# Altium footprint library PcbLib2.PcbLib: 58 footprints (part 2 of 4)
Each footprint in its own frame and in the unit in brackets; x right, y up, seen from the top. Pads: shape width x height; smd on the part's side, far side on the other; paste and mask are expansions set on the pad; w line width, h text height; cw(c..) or ccw(c..) is an arc to the next point about the centre after c.
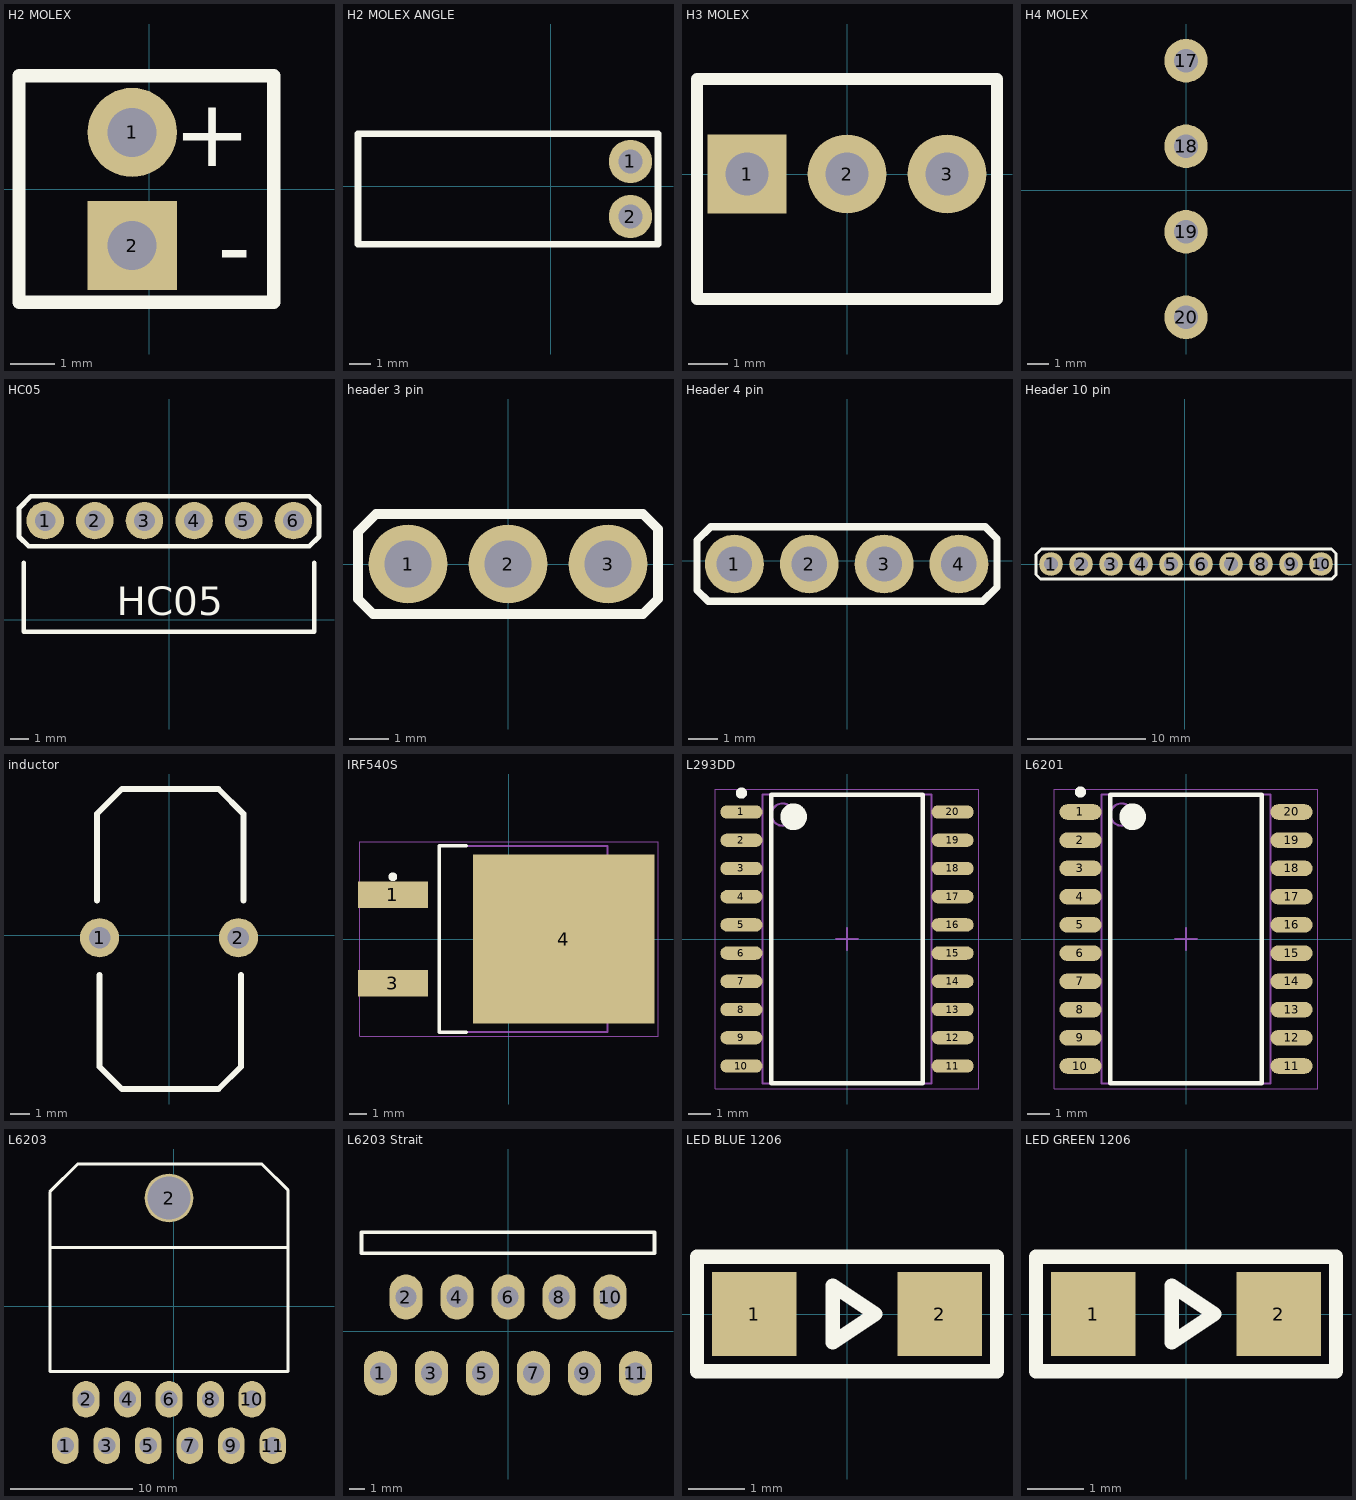
[diagram p1: the footprints below, top view; thin cyan lines are the x and y axes]

## H2 MOLEX [mm]
pads (2):
  round 2 hole 1.1: 1(-0.381,1.27)
  rect 2x2 hole 1.1: 2(-0.381,-1.27)
Top Overlay:
  lines w0.3: -2.921,-2.54 2.794,-2.54 2.794,2.54 -2.921,2.54 -2.921,-2.54
  text "-" at 2.286,-2.032 h1.52
  text "+" at 2.286,0.508 h1.52
3D body "Molex-2.54-2pin.STEP": height 11.24, standoff -3.09, extent -2.9,-2.54 2.9,2.54

## H2 MOLEX ANGLE [mm]
pads (2):
  round 2 hole 1.1: 1(3.683,1.143) 2(3.683,-1.397)
Top Overlay:
  lines w0.3: -8.89,-2.667 4.953,-2.667 4.953,2.413 -8.89,2.413 -8.89,-2.667
3D body "Molex-2.54-2pin-angle.STEP": height 5.87, standoff -4.04, extent -8.999,-2.672 3.974,2.408

## H3 MOLEX [mm]
pads (3):
  rect 2x2 hole 1.1: 1(-2.54,0)
  round 2 hole 1.1: 2(0,0) 3(2.54,0)
Top Overlay:
  lines w0.3: -3.81,-3.175 -3.81,2.413 3.81,2.413 3.81,-3.175 -3.81,-3.175
3D body "molex-2.54-3pin.STEP": height 11.25, standoff -3.08, extent -3.807,-3.311 3.813,2.489

## H4 MOLEX [mm]
pads (4):
  round 2 hole 1.1: 17(0,5.969) 18(0,2.032) 19(0,-1.905) 20(0,-5.842)
3D body "JST - VH - Thru (V) - 4Pin - 3.96mm.stp": height 10.36, standoff -3.96, extent -4.039,-8.238 4.648,8.238

## HC05 [mm]
pads (6):
  round 2 hole 1.1: 1(-6.605,5.3) 2(-3.956,5.3) 3(-1.308,5.3) 4(1.341,5.3) 5(3.99,5.3) 6(6.639,5.3)
Top Overlay:
  lines w0.254: -7.747,3.048 -7.747,-0.635 7.747,-0.635 7.747,3.048 ; -8.001,4.445 -7.493,3.937 7.493,3.937 8.001,4.445 8.001,6.096 7.493,6.604 -7.366,6.604 -8.001,5.969 -8.001,4.445
  text "HC05" at -2.793,0.254 h1.52
3D body "HC-05.SLDPRT": height 39.5, standoff -3.08, extent -8,-1 8,5.55

## header 3 pin [mm]
pads (3):
  round 2 hole 1.2: 1(-2.54,0) 2(0,0) 3(2.54,0)
Top Overlay:
  lines w0.254: -3.81,-0.889 -3.81,0.81 -3.35,1.27 3.429,1.27 3.81,0.889 3.81,-0.889 3.429,-1.27 -3.429,-1.27 -3.81,-0.889
3D body "Male Pin Header.step": height 8, standoff -3, extent 1.23,-1.25 3.73,1.25
3D body "Male Pin Header.step": height 8, standoff -3, extent -1.27,-1.25 1.23,1.25
3D body "Male Pin Header.step": height 8, standoff -3, extent -3.77,-1.25 -1.27,1.25

## Header 4 pin [mm]
pads (4):
  round 2 hole 1.2: 1(-3.833,-0.102) 2(-1.293,-0.102) 3(1.247,-0.102) 4(3.787,-0.102)
Top Overlay:
  lines w0.254: -5.103,-0.991 -4.722,-1.372 4.597,-1.372 5.08,-0.889 5.08,0.762 4.674,1.168 -4.643,1.168 -5.103,0.708 -5.103,-0.991
3D body "Male Pin Header.step": height 8, standoff -3, extent 2.477,-1.352 4.977,1.148
3D body "Male Pin Header.step": height 8, standoff -3, extent -5.063,-1.352 -2.563,1.148
3D body "Male Pin Header.step": height 8, standoff -3, extent -2.563,-1.352 -0.063,1.148
3D body "Male Pin Header.step": height 8, standoff -3, extent -0.063,-1.352 2.437,1.148

## Header 10 pin [mm]
pads (10):
  round 2 hole 1.2: 1(-11.326,0.025) 2(-8.786,0.025) 3(-6.246,0.025) 4(-3.706,0.025) 5(-1.166,0.025) 6(1.374,0.025) 7(3.914,0.025) 8(6.454,0.025) 9(8.994,0.025) 10(11.534,0.025)
Top Overlay:
  lines w0.254: -12.596,-0.864 -12.215,-1.245 12.451,-1.245 12.804,-0.892 12.804,0.914 12.423,1.295 -12.136,1.295 -12.596,0.835 -12.596,-0.864
3D body "Male Pin Header.step": height 8, standoff -3, extent 10.224,-1.225 12.724,1.275
3D body "Male Pin Header.step": height 8, standoff -3, extent 7.684,-1.225 10.184,1.275
3D body "Male Pin Header.step": height 8, standoff -3, extent 5.144,-1.225 7.644,1.275
3D body "Male Pin Header.step": height 8, standoff -3, extent 2.604,-1.225 5.104,1.275
3D body "Male Pin Header.step": height 8, standoff -3, extent 0.064,-1.225 2.564,1.275
3D body "Male Pin Header.step": height 8, standoff -3, extent -2.476,-1.225 0.024,1.275
3D body "Male Pin Header.step": height 8, standoff -3, extent -5.016,-1.225 -2.516,1.275
3D body "Male Pin Header.step": height 8, standoff -3, extent -12.556,-1.225 -10.056,1.275
3D body "Male Pin Header.step": height 8, standoff -3, extent -10.056,-1.225 -7.556,1.275
3D body "Male Pin Header.step": height 8, standoff -3, extent -7.556,-1.225 -5.056,1.275

## inductor [mm]
pads (2):
  round 2 hole 1.1: 1(-3.556,-0.127) 2(3.556,-0.127)
Top Overlay:
  lines w0.3: -3.683,1.778 -3.683,6.223 -2.413,7.493 2.54,7.493 3.81,6.223 3.81,1.778 ; -3.556,-2.032 -3.556,-6.731 -2.413,-7.874 2.54,-7.874 3.683,-6.731 3.683,-2.032
3D body "IND_4426_NEW.x_t": height 16.29, standoff -0.28, extent -4.15,-8.424 4.15,8.17

## IRF540S [mm] "D2-PAK, 3-Pads, Body 7.93x8.70mm (max), IPC Medium Density"
height 4.83
pads (3):
  rect 4x1.5 smd: 1(-6.65,2.54) 3(-6.65,-2.54)
  rect 10.4x9.7 smd: 4(3.15,0)
Top Overlay:
  circle w0.25: c-6.65,3.565 r0.125
  lines w0.2: -2.45,-5.35 -4,-5.35 -4,5.35 -2.45,5.35
Mechanical 13:
  lines w0.1: -4,-5.325 5.65,-5.325 5.65,5.325 -4,5.325 -4,-5.325
Mechanical 15:
  lines w0.05: -8.55,-5.575 8.55,-5.575 8.55,5.575 -8.55,5.575 -8.55,-5.575
  lines w0.1: -0.5,0 0.5,0 ; 0,-0.5 0,0.5
3D body "DPAK254P1524X483-3N.step": height 5.08, standoff 0, extent -7.645,-5.325 7.6,5.325

## L293DD [mm] "SOP, 20-Leads, Body 12.80x7.50mm, Pitch 1.27mm, IPC Medium Density"
height 2.35
pads (20):
  oval 1.9x0.6 smd: 1(-4.75,5.715) 2(-4.75,4.445) 3(-4.75,3.175) 4(-4.75,1.905) 5(-4.75,0.635) 6(-4.75,-0.635) 7(-4.75,-1.905) 8(-4.75,-3.175) 9(-4.75,-4.445) 10(-4.75,-5.715) 11(4.75,-5.715) 12(4.75,-4.445) 13(4.75,-3.175) 14(4.75,-1.905) 15(4.75,-0.635) 16(4.75,0.635) 17(4.75,1.905) 18(4.75,3.175) 19(4.75,4.445) 20(4.75,5.715)
Top Overlay:
  circle w0.6: c-2.4,5.5 r0.3
  circle w0.25: c-4.75,6.565 r0.125
  lines w0.2: -3.4,-6.5 3.4,-6.5 3.4,6.5 -3.4,6.5 -3.4,-6.5
Mechanical 13:
  circle w0.1: c-2.9,5.6 r0.5
  lines w0.1: -3.8,-6.5 3.8,-6.5 3.8,6.5 -3.8,6.5 -3.8,-6.5
Mechanical 15:
  lines w0.05: -5.925,-6.75 5.925,-6.75 5.925,6.75 -5.925,6.75 -5.925,-6.75
  lines w0.1: -0.5,0 0.5,0 ; 0,-0.5 0,0.5
3D body "SOP127P1030X235-20N.step": height 2.35, standoff 0, extent -5.162,-6.5 5.162,6.5

## L6201 [mm] "SOP, 20-Leads, Body 12.80x7.50mm, Pitch 1.27mm, IPC Medium Density"
height 2.5
pads (20):
  oval 1.9x0.7 smd: 1(-4.75,5.715) 2(-4.75,4.445) 3(-4.75,3.175) 4(-4.75,1.905) 5(-4.75,0.635) 6(-4.75,-0.635) 7(-4.75,-1.905) 8(-4.75,-3.175) 9(-4.75,-4.445) 10(-4.75,-5.715) 11(4.75,-5.715) 12(4.75,-4.445) 13(4.75,-3.175) 14(4.75,-1.905) 15(4.75,-0.635) 16(4.75,0.635) 17(4.75,1.905) 18(4.75,3.175) 19(4.75,4.445) 20(4.75,5.715)
Top Overlay:
  circle w0.6: c-2.4,5.5 r0.3
  circle w0.25: c-4.75,6.615 r0.125
  lines w0.2: -3.4,-6.5 3.4,-6.5 3.4,6.5 -3.4,6.5 -3.4,-6.5
Mechanical 13:
  circle w0.1: c-2.9,5.6 r0.5
  lines w0.1: -3.8,-6.5 3.8,-6.5 3.8,6.5 -3.8,6.5 -3.8,-6.5
Mechanical 15:
  lines w0.05: -5.925,-6.75 5.925,-6.75 5.925,6.75 -5.925,6.75 -5.925,-6.75
  lines w0.1: -0.5,0 0.5,0 ; 0,-0.5 0,0.5
3D body "SOP127P1030X250-20N.step": height 2.5, standoff 0, extent -5.162,-6.5 5.162,6.5

## L6203 [mm]
pads (12):
  oval 2.2x3 hole 1.4: 1(-8.89,-11.43) 2(-7.188,-7.62) 3(-5.486,-11.43) 4(-3.785,-7.62) 5(-2.083,-11.43) 6(-0.381,-7.62) 7(1.321,-11.43) 8(3.023,-7.62) 9(4.724,-11.43) 10(6.426,-7.62) 11(8.128,-11.43)
  round 4 hole 3.5: 2(-0.381,8.89)
Top Overlay:
  lines w0.254: -10.16,4.826 -10.16,9.398 -7.874,11.684 7.239,11.684 9.398,9.525 9.398,4.826 ; -10.16,4.826 -10.16,-5.334 9.398,-5.334 9.398,4.826 ; -10.16,4.826 9.398,4.826
3D body "MULTIWATT-11_Normal_LHorizontal_rev1.0.STEP": height 5.07, standoff -2.21, extent -10.275,-11.695 9.525,11.695

## L6203 Strait [mm]
pads (11):
  oval 2.2x3 hole 1.4: 1(-8.509,-2.794) 2(-6.807,2.286) 3(-5.105,-2.794) 4(-3.404,2.286) 5(-1.702,-2.794) 6(0,2.286) 7(1.702,-2.794) 8(3.404,2.286) 9(5.105,-2.794) 10(6.807,2.286) 11(8.509,-2.794)
Top Overlay:
  lines w0.254: -9.779,5.207 -9.779,6.604 9.779,6.604 9.779,5.207 -9.779,5.207
3D body "MULTIWATT-11_Normal_LStrandard_rev1.0.STEP": height 21.5, standoff -1.53, extent -9.9,-3.067 9.9,6.858

## LED BLUE 1206 [mm]
pads (2):
  rect 1.5x1.5 smd: 1(-1.651,0) 2(1.651,0)
Top Overlay:
  lines w0.254: -2.667,-1.016 -2.667,1.016 2.667,1.016 2.667,-1.016 -2.667,-1.016 ; -0.254,-0.508 0.508,0 -0.254,0.508 -0.254,-0.508
3D body "LED_1206_Blue.stp": height 0.9, standoff 0, extent -1.612,-0.845 1.658,0.805

## LED GREEN 1206 [mm]
pads (2):
  rect 1.5x1.5 smd: 1(-1.651,0) 2(1.651,0)
Top Overlay:
  lines w0.254: -2.667,-1.016 -2.667,1.016 2.667,1.016 2.667,-1.016 -2.667,-1.016 ; -0.254,-0.508 0.508,0 -0.254,0.508 -0.254,-0.508
3D body "LED_1206_Green.stp": height 0.9, standoff 0, extent -1.635,-0.832 1.635,0.818